# Altium footprint library STL.PcbLib: 40 footprints (part 2 of 3)
Each footprint in its own frame and in the unit in brackets; x right, y up, seen from the top. Pads: shape width x height; smd on the part's side, far side on the other; paste and mask are expansions set on the pad; w line width, h text height; cw(c..) or ccw(c..) is an arc to the next point about the centre after c.
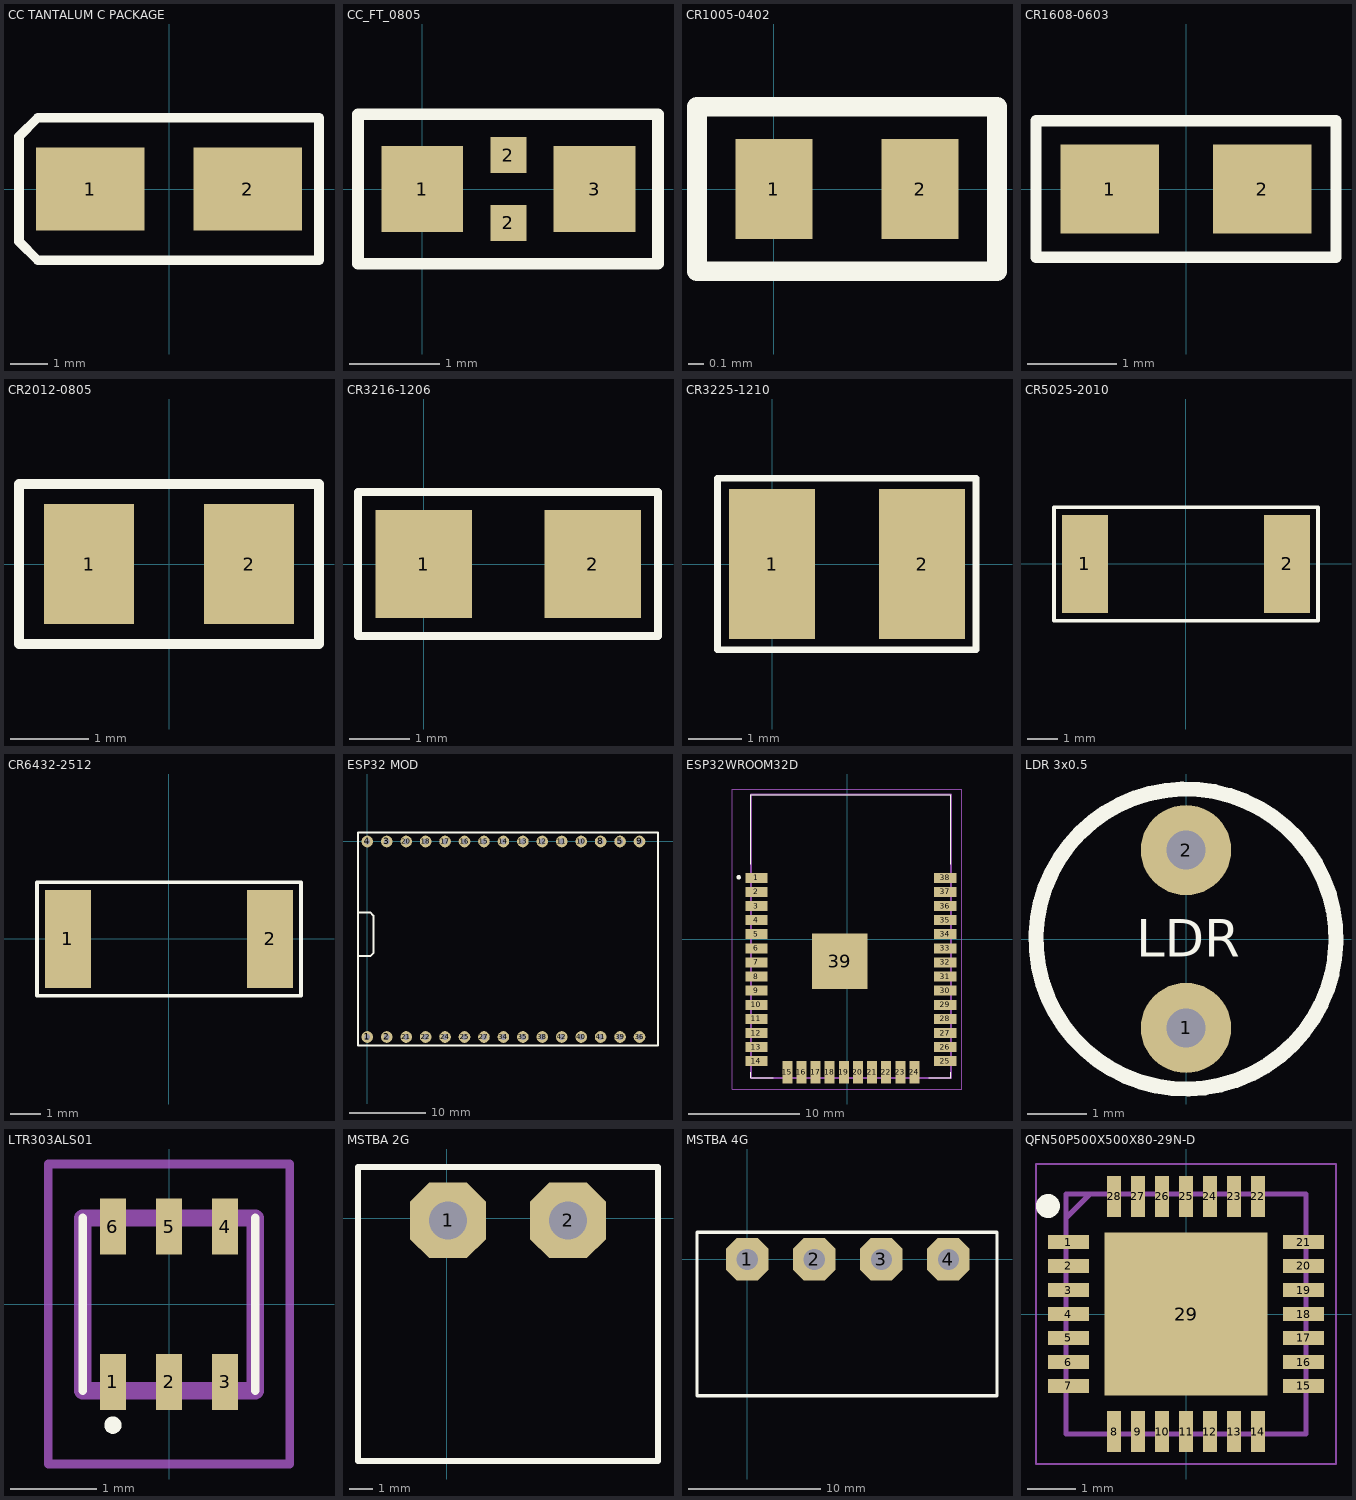
[diagram p1: the footprints below, top view; thin cyan lines are the x and y axes]

## CC TANTALUM C PACKAGE [mil] "CAP TANT 2312 SMT"
height 125.98
pads (2):
  rect 114x87 smd: 1(-82.68,0) 2(82.68,0)
Top Overlay:
  lines w10: -157.48,-55.12 -137.8,-74.8 157.48,-74.8 157.48,74.8 -129.92,74.8 -137.8,74.8 -157.48,55.12 -157.48,-55.12
3D body "User Library-Tantalum Capacitor Case C.STEP": height -16.69, standoff -122.55, extent -121.76,-63.09 121.75,63.09

## CC_FT_0805 [mm]
height 1
pads (4):
  rect 0.9x0.95 smd: 1(0,0) 3(1.9,0)
  rect 0.4x0.4 smd: 2(0.95,-0.375) 2(0.95,0.375)
Top Overlay:
  lines w0.127: -0.711,-0.826 -0.711,0.826 2.591,0.826 ; -0.701,-0.826 2.601,-0.826 2.601,0.826
3D body "YFF-4_1P0X0P55_18.stp": height 0.71, standoff 0, extent 0.099,-0.445 1.801,0.445

## CR1005-0402 [mm]
pads (2):
  rect 0.5x0.65 smd: 1(0,0) 2(0.95,0)
Top Overlay:
  lines w0.127: -0.5,-0.533 1.45,-0.533 1.45,0.533 -0.5,0.533 -0.5,-0.533
3D body "User Library-RESC1005X04N.step": height 0.35, standoff 0, extent -0.025,-0.25 0.975,0.25

## CR1608-0603 [mm] "Chip Resistor; Body 1.6 x 0.8 mm (LxW typ)"
height 1.35
pads (2):
  rect 1.1x1 smd: 1(-0.85,0) 2(0.85,0)
Top Overlay:
  lines w0.127: -1.676,-0.762 1.676,-0.762 1.676,0.762 -1.676,0.762 -1.676,-0.762
3D body "User Library-RESC1608X05N.step": height 0.45, standoff 0, extent -0.775,-0.425 0.775,0.425

## CR2012-0805 [mil] "Chip Capacitor"
pads (2):
  rect 45x60 smd: 1(-40,0) 2(40,0)
Top Overlay:
  lines w5: -75,-40 -75,40 75,40 75,-40 -75,-40
3D body "RESC2012X05N.step": height 17.76, standoff 0, extent -39.37,-24.61 39.37,24.61

## CR3216-1206 [mm] "Chip Capacitor; Body 3.2 x 1.6 mm (LxW typ)"
height 1.35
pads (2):
  rect 1.6x1.8 smd: 1(0,0) 2(2.8,0)
Top Overlay:
  lines w0.127: -1.092,-1.194 3.886,-1.194 3.886,1.194 -1.092,1.194 -1.092,-1.194
3D body "User Library-RESC3216X06N.step": height 0.55, standoff 0, extent -0.203,-0.8 2.997,0.8

## CR3225-1210 [mm] "Chip Capacitor; Body 3.2 x 1.6 mm (LxW typ)"
height 1.35
pads (2):
  rect 1.6x2.8 smd: 1(0,0) 2(2.8,0)
Top Overlay:
  lines w0.127: -1.016,-1.6 -1.016,1.6 3.81,1.6 3.81,-1.6 -1.016,-1.6
3D body "User Library-RESC3225X06N.STEP": height 0.55, standoff 0, extent -0.203,-1.23 2.997,1.27

## CR5025-2010 [mm] "Chip Resistor"
pads (2):
  rect 1.5x3.2 smd: 1(-3.3,0) 2(3.3,0)
Top Overlay:
  lines w0.127: -4.316,-1.854 4.316,-1.854 4.316,1.854 -4.316,1.854 -4.316,-1.854
3D body "User Library-RESC6432X06.step": height 0.6, standoff 0, extent -3.2,-1.6 3.2,1.6

## CR6432-2512 [mm] "Chip Capacitor"
pads (2):
  rect 1.5x3.2 smd: 1(-3.3,0) 2(3.3,0)
Top Overlay:
  lines w0.127: -4.316,-1.854 4.316,-1.854 4.316,1.854 -4.316,1.854 -4.316,-1.854
3D body "User Library-RESC6432X06.step": height 0.6, standoff 0, extent -3.2,-1.6 3.2,1.6

## ESP32 MOD [mil]
pads (30):
  round 60 hole 30: 1(0,-1005.51) 2(100,-1005.51) 3(100,0) 4(0,0) 5(1300,0) 8(1200,0) 9(1400,0) 10(1100,0) 11(1000,0) 12(900,0) 13(800,0) 14(700,0) 15(600,0) 16(500,0) 17(400,0) 18(300,0) 20(200,0) 21(200,-1005.51) 22(300,-1005.51) 24(400,-1005.51) 25(500,-1005.51) 27(600,-1005.51) 34(700,-1005.51) 35(800,-1005.51) 36(1400,-1005.51) 38(900,-1005.51) 39(1300,-1005.51) 40(1100,-1005.51) 41(1200,-1005.51) 42(1000,-1005.51)
Top Overlay:
  lines w10: -47.76,-364.49 14.25,-364.49 30.94,-381.18 30.94,-574.37 16.61,-588.7 -42.99,-588.7 ; -46.77,-1049.96 -46.77,46.85 1495.08,46.85 1495.08,-1049.96 -46.77,-1049.96
3D body "ESP-WROOM32.STEP": height 338.72, standoff -149.47, extent -392.24,-1060 1612.88,62.05

## ESP32WROOM32D [mm]
pads (39):
  rect 2x0.9 smd: 1(-8.15,5.51) 2(-8.15,4.24) 3(-8.15,2.97) 4(-8.15,1.7) 5(-8.15,0.43) 6(-8.15,-0.84) 7(-8.15,-2.11) 8(-8.15,-3.38) 9(-8.15,-4.65) 10(-8.15,-5.92) 11(-8.15,-7.19) 12(-8.15,-8.46) 13(-8.15,-9.73) 14(-8.15,-11) 25(8.85,-11) 26(8.85,-9.73) 27(8.85,-8.46) 28(8.85,-7.19) 29(8.85,-5.92) 30(8.85,-4.65) 31(8.85,-3.38) 32(8.85,-2.11) 33(8.85,-0.84) 34(8.85,0.43) 35(8.85,1.7) 36(8.85,2.97) 37(8.85,4.24) 38(8.85,5.51)
  rect 0.9x2 smd: 15(-5.365,-12) 16(-4.095,-12) 17(-2.825,-12) 18(-1.555,-12) 19(-0.285,-12) 20(0.985,-12) 21(2.255,-12) 22(3.525,-12) 23(4.795,-12) 24(6.065,-12)
  rect 5x5 smd: 39(-0.65,-1.99)
Top Overlay:
  lines w0.1: -8.65,-12 -8.65,-12.5 -6.65,-12.5 ; -8.65,6.75 -8.65,13 9.35,13 9.35,6.75 ; 7.35,-12.5 9.35,-12.5 9.35,-12
  lines w0.2: -9.75,5.45 ccw(c-9.75,5.55) -9.75,5.65 ccw(c-9.75,5.55) -9.75,5.45
Mechanical 13:
  lines w0.2: -8.65,-12.5 9.35,-12.5 9.35,13 -8.65,13 -8.65,-12.5
Mechanical 15:
  lines w0.1: -10.35,-13.5 10.35,-13.5 10.35,13.5 -10.35,13.5 -10.35,-13.5

## LDR 3x0.5 [mm]
pads (2):
  round 1.524 hole 0.66: 1(0,-1.5) 2(0,1.5)
Top Overlay:
  lines w0.254: 1.337,-2.148 cw(c0,0) 1.378,-2.122
  text "LDR" at -0.84,-0.3 h0.64
3D body "LDR_photocell_v8.STEP": height 9.1, standoff -3.1, extent -2.2,-2.55 2.1,2.55

## LTR303ALS01 [mm]
pads (6):
  rect 0.3x0.65 smd: 1(-0.65,-0.9) 2(0,-0.9) 3(0.65,-0.9) 4(0.65,0.9) 5(0,0.9) 6(-0.65,0.9)
Top Overlay:
  lines w0.1: -1,-1 -1,1 ; 1,-1 1,1 ; -0.7,-1.4 ccw(c-0.65,-1.4) -0.6,-1.4 ccw(c-0.65,-1.4) -0.7,-1.4
Mechanical 13:
  lines w0.2: -1,-1 -1,1 1,1 1,-1 -1,-1
Mechanical 15:
  lines w0.1: -1.4,-1.85 -1.4,1.625 1.4,1.625 1.4,-1.85 -1.4,-1.85

## MSTBA 2G [mil]
pads (2):
  oct 126x126 hole 63: 1(2,-4) 2(202,-4)
Top Overlay:
  lines w10: -148,-405 -148,85 352,85 352,-405 -148,-405
3D body "1757242.stp": height 338.58, standoff -137.8, extent -137.37,-397.53 341.37,75

## MSTBA 4G [mil]
pads (4):
  oct 126x126 hole 63: 1(0,0) 2(200,0) 3(400,0) 4(600,0)
Top Overlay:
  lines w10: -150,-406.83 745.14,-406.83 745.14,80.59 -150,80.59 -150,-406.83
3D body "1923885.stp": height 338.58, standoff -137.8, extent -141.22,-399.23 737.52,73.3

## QFN50P500X500X80-29N-D [mm]
pads (29):
  rect 0.85x0.3 smd: 1(-2.45,1.5) 2(-2.45,1) 3(-2.45,0.5) 4(-2.45,0) 5(-2.45,-0.5) 6(-2.45,-1) 7(-2.45,-1.5) 15(2.45,-1.5) 16(2.45,-1) 17(2.45,-0.5) 18(2.45,0) 19(2.45,0.5) 20(2.45,1) 21(2.45,1.5)
  rect 0.3x0.85 smd: 8(-1.5,-2.45) 9(-1,-2.45) 10(-0.5,-2.45) 11(0,-2.45) 12(0.5,-2.45) 13(1,-2.45) 14(1.5,-2.45) 22(1.5,2.45) 23(1,2.45) 24(0.5,2.45) 25(0,2.45) 26(-0.5,2.45) 27(-1,2.45) 28(-1.5,2.45)
  rect 3.4x3.4 smd: 29(0,0)
Top Overlay:
  circle w0.25: c-2.875,2.25 r0.125
Mechanical 13:
  lines w0.1: -2.5,2 -2,2.5 ; -2.5,-2.5 2.5,-2.5 2.5,2.5 -2.5,2.5 -2.5,-2.5
Mechanical 15:
  lines w0.05: -3.125,-3.125 3.125,-3.125 3.125,3.125 -3.125,3.125 -3.125,-3.125
3D body "ADE7953ACPZ-RL.stp": height 0.8, standoff 0, extent -2.55,-2.55 2.55,2.55